# EAGLE library part USB (library usb-a1ss_vert_usb_a)
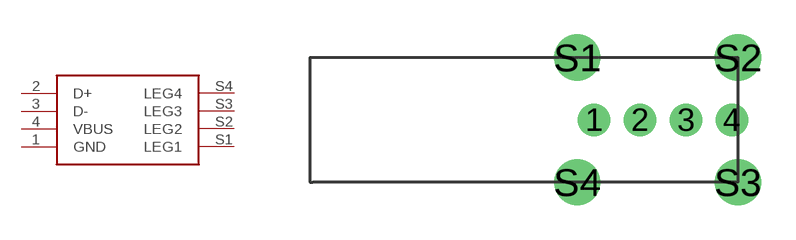
[diagram p0: symbol with the pads of USB-A1SXX; footprint USB-A1SXX]

Designator prefix -

## USB  [USB-A1SXX]
1  GND
2  D+
3  D-
4  VBUS
S1  LEG1
S2  LEG2
S3  LEG3
S4  LEG4

## Footprint USB-A1SXX (pad centres in mm)
drill 0.914: 1 -6.274,2.718; 2 -4.267,2.718; 3 -2.261,2.718; 4 -0.254,2.718
drill 1.346: S1 -7.01,5.436; S2 0,5.436; S3 0,0; S4 -7.01,0